# Altium integrated library un52E.IntLib: 36 symbols
Pins are listed as number, name and electrical type; pins without a type are passive.

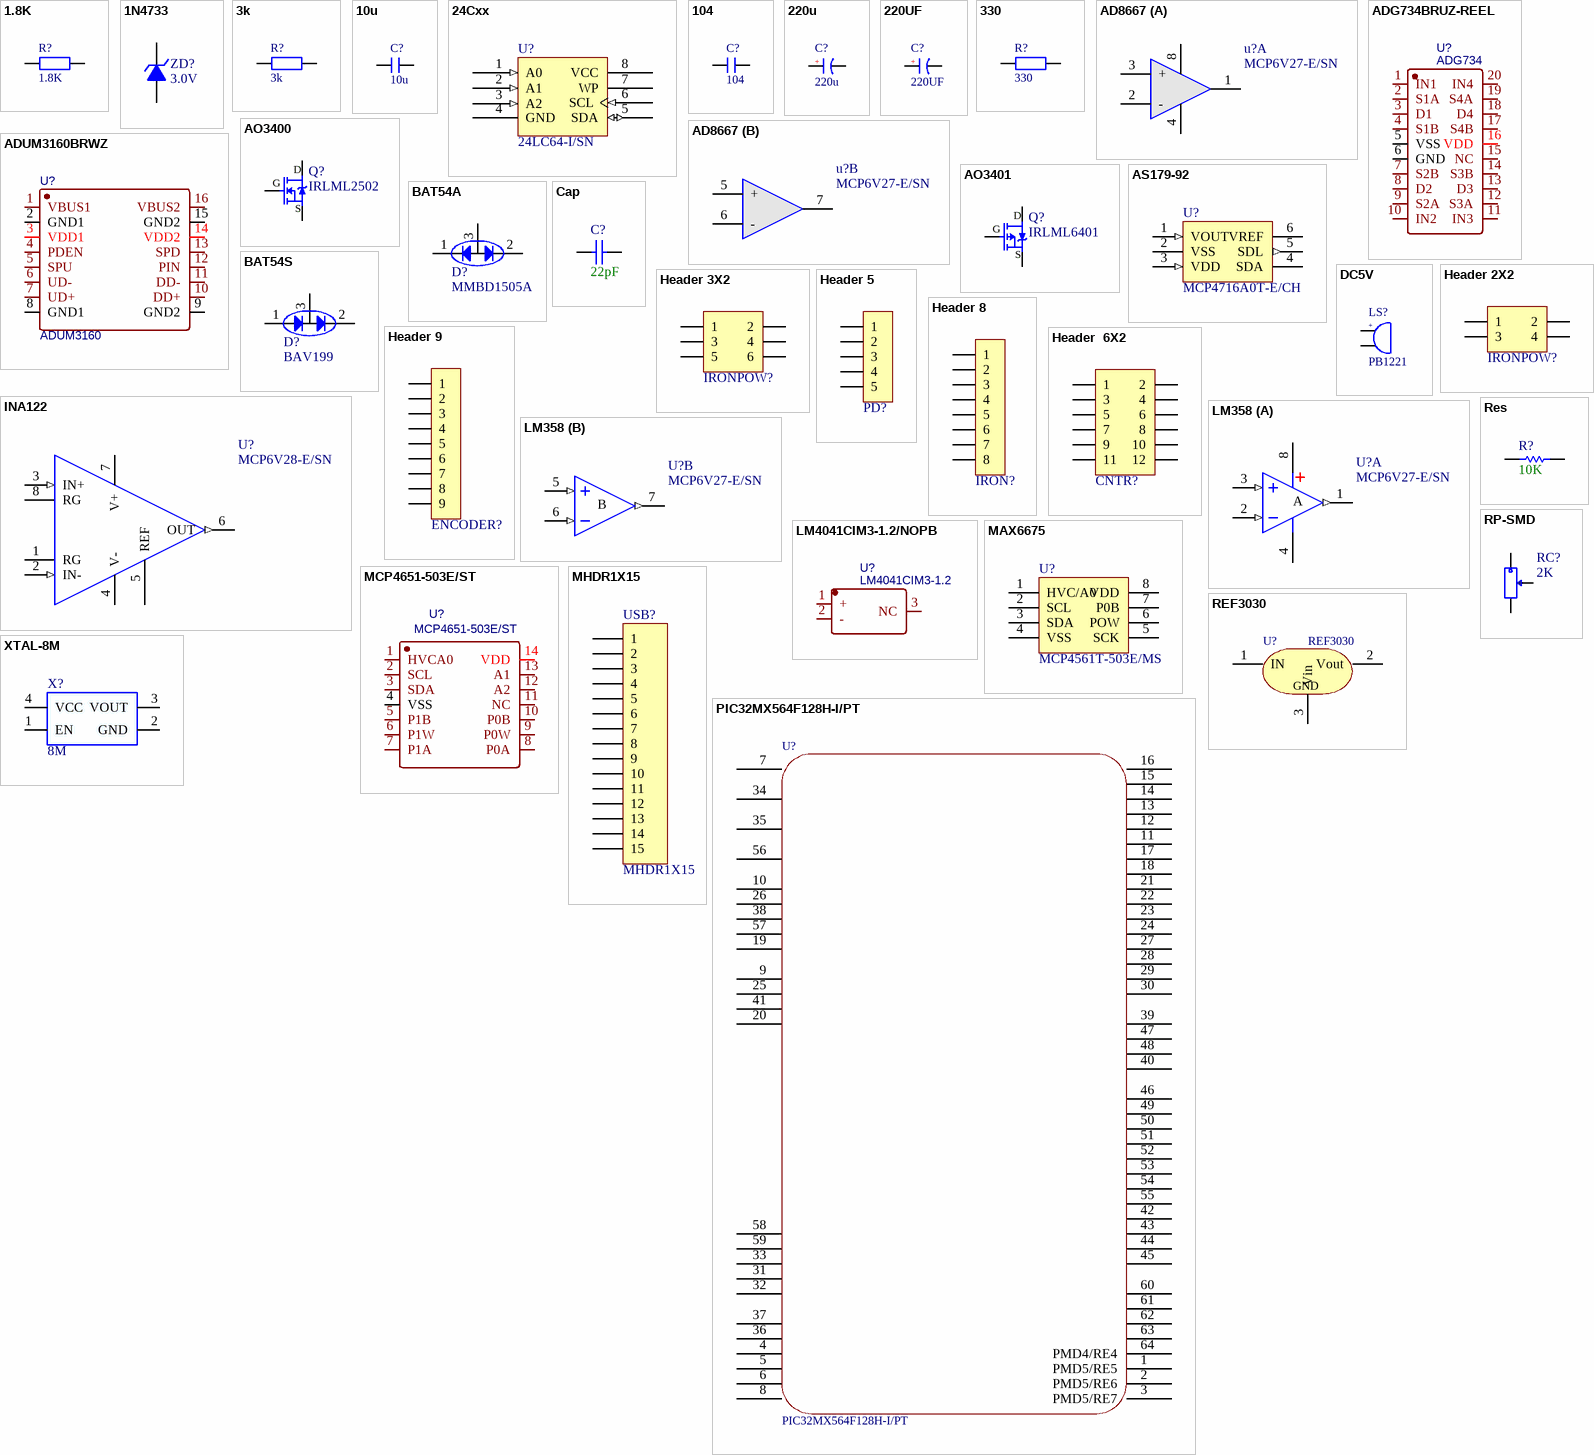
[diagram p0: symbols 1.8K to XTAL-8M]

## 1.8K
designator R?
BOM名称: 贴片电阻; 版权归属: 源创客; 学习资源: www.ooocke.com
footprint R 0603_L
footprint R 0805_L
pins: 1, 2

## 1N4733
designator ZD?, comment 3.0V
5.1V/1W稳压管; 版权归属: 源创客; BOM名称: 5.1V/1W稳压管; 学习资源: www.ooocke.com
footprint DO-41 (2.6*9.1mm(直径，脚距）)
footprint MELF (LL41) (2.4*5.3mm(直径，脚距）)
footprint DO-41V (2.6*3.5mm(直径，脚距）)
footprint SMA (4.5x2.6*2.2mm（长宽高，不包括引脚）)
footprint MINI_MELF (LL34) (1.5*3.4mm(直径，脚距）)
footprint SOD-123 (2.7x1.6X1.1mm（长宽高，不包括引脚）)
pins: 1 A, 2 K

## 3k
designator R?
BOM名称: 贴片电阻; 版权归属: 源创客; 学习资源: www.ooocke.com
footprint R 0603_L
footprint R 0805_L
pins: 1, 2

## 10u
designator C?
BOM名称: 无极性贴片电容; 版权归属: 源创客; 材质: X7R; 学习资源: www.ooocke.com
footprint C 0805_L
pins: 1, 2

## 24Cxx
designator U?, comment 24LC64-I/SN
外置EEPROM; 版权归属: 源创客; BOM名称: 外置EEPROM; 学习资源: www.ooocke.com
footprint SOP8_L (5*6*1.8mm（长宽高）)
footprint SOP8_N (5*6*1.8mm（长宽高）)
footprint SOP8_M (5*6*1.8mm（长宽高）)
pins: 1 A0 (in), 2 A1 (in), 3 A2 (in), 4 GND, 5 SDA (io), 6 SCL (in), 7 WP, 8 VCC (power)

## 104
designator C?
BOM名称: 无极性贴片电容; 版权归属: 源创客; 材质: X7R; 学习资源: www.ooocke.com
footprint C 0603_L
pins: 1, 2

## 220u
designator C?
BOM名称: 贴片钽电容; 版权归属: 源创客; 学习资源: www.ooocke.com
footprint CD D(7343)
pins: 1 A, 2 K
text: +

## 220UF
designator C?
BOM名称: 贴片钽电容; 版权归属: 源创客; 学习资源: www.ooocke.com
footprint CD D(7343)
pins: 1 A, 2 K
text: +

## 330
designator R?
BOM名称: 贴片电阻; 版权归属: 源创客; 学习资源: www.ooocke.com
footprint R 0603_L
footprint R 0805_L
pins: 1, 2

## AD8667
designator u?, comment MCP6V27-E/SN
双运放; 版权归属: 源创客; BOM名称: 双运放; 学习资源: www.ooocke.com
footprint SOP8_N (5*6*1.8mm（长宽高）)
footprint SOP8_L (5*6*1.8mm（长宽高）)
footprint SOP8_M (5*6*1.8mm（长宽高）)
part A pins: 1 OUT1, 2 -, 3 +, 4 V- (power), 8 V+ (power)
part B pins: 5 +, 6 -, 7 OUT2

## ADG734BRUZ-REEL
designator U?, comment ADG734
BOM_Manufacturer: Analog Devices; BOM_Manufacturer Part: ADG734BRUZ-REEL; Contributor: LCSC; SMT Type: Extend; BOM_Supplier: LCSC; BOM_Supplier Part: C579105; BOM_JLCPCB SMD: Yes; spicePre: U; spiceSymbolName: ADG734BRUZ-REEL
footprint SSOP20_L (7.2*7.8*1.6（长宽高）)
footprint SSOP20 (SSOP; 20 Leads; Body Width 5.3 mm; Pitch 0.65 mm)
footprint TSSOP20 (Shrink Small Outline; 20 Leads; Body Width 4.4 mm; Pitch 0.65 mm)
pins: 1 IN1, 2 S1A, 3 D1, 4 S1B, 5 VSS, 6 GND, 7 S2B, 8 D2, 9 S2A, 10 IN2, 11 IN3, 12 S3A, 13 D3, 14 S3B, 15 NC, 16 VDD, 17 S4B, 18 D4, 19 S4A, 20 IN4

## ADUM3160BRWZ
designator U?, comment ADUM3160
BOM_Manufacturer: ADI; BOM_Manufacturer Part: ADUM3160BRWZ; Contributor: LCSC; SMT Type: Extend; BOM_Supplier: LCSC; BOM_Supplier Part: C108501; BOM_JLCPCB SMD: Yes; spicePre: U; spiceSymbolName: ADUM3160BRWZ
footprint SOP16W_L (10.3*10.3*2.6mm（长宽高）)
pins: 1 VBUS1, 2 GND1, 3 VDD1, 4 PDEN, 5 SPU, 6 UD-, 7 UD+, 8 GND1, 9 GND2, 10 DD+, 11 DD-, 12 PIN, 13 SPD, 14 VDD2, 15 GND2, 16 VBUS2

## AO3400
designator Q?, comment IRLML2502
N沟道 30V/4.2A; BOM名称: 场效应管; 版权归属: 源创客; 学习资源: www.ooocke.com; 描述: N沟道 30V/4.2A
footprint SOT23-3N (3x1.3x1mm(长宽高))
footprint SOT23-3L (3x1.3x1mm(长宽高))
footprint SOT23-3M (3x1.3x1mm(长宽高))
pins: 1 G, 2 S, 3 D

## AO3401
designator Q?, comment IRLML6401
P沟道 30V/4.2A; BOM名称: 场效应管; 版权归属: 源创客; 学习资源: www.ooocke.com; 描述: P沟道 30V/4.2A
footprint SOT23-3N (3x1.3x1mm(长宽高))
footprint SOT23-3L (3x1.3x1mm(长宽高))
footprint SOT23-3M (3x1.3x1mm(长宽高))
pins: 1 G, 2 S, 3 D

## AS179-92
designator U?, comment MCP4716A0T-E/CH
射频开关芯片; 版权归属: 源创客; BOM名称: 射频开关芯片; 学习资源: www.ooocke.com
footprint SOT36-3N
footprint SOT23-6 (SOT-457/SC-74; 6 Leads; Body 3 x 3 mm, inc. leads (LxW max))
pins: 1 VOUT (in), 2 VSS, 3 VDD (in), 4 SDA, 5 SDL (out), 6 VREF

## BAT54A
designator D?, comment MMBD1505A
表贴肖特基二极管; BOM名称: 肖特基二极管; 版权归属: 源创客; 属性: 30V/0.2A; 学习资源: www.ooocke.com
footprint SOT23-3N (3x1.3x1mm(长宽高))
footprint SOT23-3L (3x1.3x1mm(长宽高))
footprint SOT23-3M (3x1.3x1mm(长宽高))
pins: 1, 2, 3

## BAT54S
designator D?, comment BAV199
表贴肖特基二极管; BOM名称: 肖特基二极管; 版权归属: 源创客; 属性: 30V/0.2A; 学习资源: www.ooocke.com
footprint SOT23-3N (3x1.3x1mm(长宽高))
footprint SOT23-3L (3x1.3x1mm(长宽高))
footprint SOT23-3M (3x1.3x1mm(长宽高))
pins: 1, 2, 3

## Cap
designator C?, comment 22pF
Capacitor; 物料编码: 6420063; 物料规格: 22p,50V,±5%,C0G; 物料名称: 贴片电容; 封装: 0603; 备注: C0603COG220J500NT; Published: 8-Jun-2000; LatestRevisionDate: 17-Jul-2002; LatestRevisionNote: Re-released for DXP Platform.; PackageReference: RAD-0.3; Publisher: Altium Limited; PackageDescription: Radial Cap, Thru-Hole; 2 Leads; 0.3 in Pin Spacing
footprint 0603_C
footprint 0805-C (Chip Resistor, Body 2.0x1.2mm, IPC High Density)
footprint 1206-C (Chip Capacitor, Body 3.2x1.6mm, IPC High Density)
footprint 1210-C (Chip Capacitor, Body 3.2x2.5mm, IPC Low Density)
footprint 1812-C (Chip Capacitor, Body 4.5x3.2mm, IPC High Density)
footprint RAD-0.1 (Radial Cap, Thru-Hole; 2 Leads; 0.1 in Pin Spacing)
footprint RAD-0.2 (Radial Cap, Thru-Hole; 2 Leads; 0.2 in Pin Spacing)
footprint RAD-0.3 (Radial Cap, Thru-Hole; 2 Leads; 0.3 in Pin Spacing)
footprint RAD-0.4 (Radial Cap, Thru-Hole; 2 Leads; 0.4 in Pin Spacing)
footprint 2220-C (Chip Capacitor, Body 5.7x5.0mm, IPC High Density)
footprint RAD-0.25 (Radial Cap, Thru-Hole; 2 Leads; 0.3 in Pin Spacing)
footprint R 0805_L (1/8W贴片电阻)
pins: 1, 2

## DC5V
designator LS?, comment PB1221
BOM名称: 蜂鸣器; 版权归属: 源创客; 学习资源: www.ooocke.com
footprint BEEP 7.6X12X7.5
footprint MX 1.25-LI-2P (长：4.25mm，宽：3.2mm，高：4.2mm)
footprint MLT-5020 (蜂鸣器)
pins: 1, 2
text: +

## Header 2X2
designator IRONPOW?, comment Header2X2  (value not drawn)
2*2P接插件; 版权归属: 源创客; BOM名称: 2*2P接插件; 学习资源: www.ooocke.com
footprint PHB2.0-LI-2x2P (长：6mm，宽：7.3mm，高：7.8mm)
footprint PHD2.0-LI-2x2P (4脚，长：6mm，宽：5mm，高：6.5mm)
footprint HDR2.0-LI-2x2P (直插，脚距：2.0mm)
footprint HDR2.0-WI-2x2P (卧插，脚距：2.0mm)
footprint HDR2.0-M-LI-2x2P (直插，脚距：2.0mm)
footprint HDR2.54-LI-2x2P (双排排针，2x2脚)
footprint HDR2.54-LI-4P (排针，4脚)
pins: 1, 2, 3, 4

## Header 3X2
designator IRONPOW?, comment Header3X2  (value not drawn)
3*2P接插件; 版权归属: 源创客; BOM名称: 3*2P接插件; 学习资源: www.ooocke.com
footprint IDC2.54-LI-2x3P (6P简易牛角座)
footprint HDR2.54-LI-2x3P (双排排针，3x2脚)
footprint HDR2.54-M-LS-2x3P (脚距：2.54mm，贴片双排母)
footprint HDR2.54-WI-2x3P (双排弯脚排针，3x2脚)
pins: 1, 2, 3, 4, 5, 6

## Header 5
designator PD?, comment HDR-1X5  (value not drawn)
5P接插件; 版权归属: 源创客; BOM名称: 5P接插件; 学习资源: www.ooocke.com
footprint HDR2.54-Y-LI-5P (圆孔排母，5脚)
footprint XH2.54-LI-5P (接插件，5P)
footprint HDR2.54-LI-5P (排针，5脚)
footprint HDR2.54-M-LI-5P (排母，5脚)
footprint HDR2.54-WI-5P (弯脚排针，5脚)
footprint HDR2.54-WS-5P (5P卧式贴片排针2.54)
footprint HDR2.54-Y-LI-5P (圆孔排母，5脚)
footprint HDR2.54-M-WS-5P (5P卧式贴片排母2.54)
footprint KF2510-LI-5P (接插件/2A)
footprint XH2.54-WS-5P (长：17.5mm，宽：8mm，高：6.1mm)
footprint XH2.54-LS-5P (长：17.5mm，宽：6mm，高：8.3mm)
footprint KF2EDGK-2.54-LI-5P (长：14.6mm，宽：8.1mm，高：10.1mm)
footprint KF2EDGK-2.54-WI-5P (长：14.6mm，宽：10.1mm，高：8.1mm)
footprint HDR2.0-LI-5P (直插，脚距：2.0mm)
footprint HDR1.27-LI-5P (直插，脚距：1.27mm)
pins: 1, 2, 3, 4, 5

## Header 8
designator IRON?, comment HDR-1X8  (value not drawn)
8P接插件; 版权归属: 源创客; BOM名称: 8P接插件; 学习资源: www.ooocke.com
footprint PH2.0-WI-8P (长：17.9mm，宽：6mm，高：4.7mm)
footprint PH2.0-LI-8P (长：17.9mm，宽：4.7mm，高：6mm)
footprint PH2.0-WS-8P (长：20mm，宽：7.6mm，高：5.5mm)
footprint PH2.0-LS-8P (长：20mm，宽：5.5mm，高：6.1mm)
footprint HDR2.0-LI-8P (直插，脚距：2.0mm)
footprint HDR2.0-wI-8P (卧插，脚距：2.0mm)
footprint HDR2.0-M-LI-8P (直插排母，脚距：2.0mm)
footprint M12-8P_FALAN
footprint GX16-8P
pins: 1, 2, 3, 4, 5, 6, 7, 8

## Header 9
designator ENCODER?, comment HDR-1X9  (value not drawn)
9P接插件; 版权归属: 源创客; BOM名称: 9P接插件; 学习资源: www.ooocke.com
footprint PH2.0-WI-9P (长：19.9mm，宽：6mm，高：4.7mm)
footprint PH2.0-LI-9P (长：19.9mm，宽：4.7mm，高：6mm)
footprint PH2.0-WS-9P (长：22mm，宽：7.6mm，高：5.5mm)
footprint PH2.0-LS-9P (长：22mm，宽：5.5mm，高：6.1mm)
footprint HDR2.0-LI-9P (直插，脚距：2.0mm)
footprint HDR2.0-WI-9P (卧插，脚距：2.0mm)
footprint HDR2.0-M-LI-9P (直插排母，脚距：2.0mm)
footprint EC11 (数字开关编码器)
footprint EC11
footprint EC11
pins: 1, 2, 3, 4, 5, 6, 7, 8, 9

## Header  6X2
designator CNTR?, comment Header 6X2  (value not drawn)
6*2P接插件; 版权归属: 源创客; BOM名称: 6*2P接插件; 学习资源: www.ooocke.com
footprint PHB2.0-LI-2x6P (长：14mm，宽：7.3mm，高：7.8mm)
footprint PHD2.0-LI-2x6P (12脚，长：14mm，宽：5mm，高：6.5mm)
footprint HDR2.0-LI-2x6P (直插，脚距：2.0mm)
footprint HDR2.0-WI-2x6P (卧插，脚距：2.0mm)
footprint HDR2.0-M-LI-2x6P (直插，脚距：2.0mm)
footprint HDR2.54-LI-2x6P (双排排针，6x2脚)
pins: 1, 2, 3, 4, 5, 6, 7, 8, 9, 10, 11, 12

## INA122
designator U?, comment MCP6V28-E/SN
微功耗仪表运放; 版权归属: 源创客; BOM名称: 微功耗仪表运放; 学习资源: www.ooocke.com
footprint SOP8_L (5*6*1.8mm（长宽高）)
footprint SOP8_M (5*6*1.8mm（长宽高）)
footprint SOP8_N (5*6*1.8mm（长宽高）)
footprint DIP8-300 (9.4*7.6*3.8(长宽高）)
footprint DIP8-300_MH (带底座 9.4*7.6*3.8(长宽高）)
pins: 1 RG, 2 IN- (in), 3 IN+ (in), 4 V-, 5 REF, 6 OUT (out), 7 V+, 8 RG

## LM358
designator U?, comment MCP6V27-E/SN
双路运放; 版权归属: 源创客; BOM名称: 双路运放; 学习资源: www.ooocke.com
footprint SOP8_L (5*6*1.8mm（长宽高）)
footprint SOP8_N (5*6*1.8mm（长宽高）)
footprint SOP8_M (5*6*1.8mm（长宽高）)
footprint DIP8-300 (9.4*7.6*3.8(长宽高）)
part A pins: 1 OUT (out), 2 IN- (in), 3 IN+ (in), 4 V- (power), 8 V+ (power)
part B pins: 5 IN+ (in), 6 IN- (in), 7 OUT (out)
part A text: A
part B text: B

## LM4041CIM3-1.2/NOPB
designator U?, comment LM4041CIM3-1.2
BOM_Manufacturer: Texas Instruments; BOM_Manufacturer Part: LM4041CIM3-1.2/NOPB; Contributor: LCSC; SMT Type: Extend; BOM_Supplier: LCSC; BOM_Supplier Part: C205904; BOM_JLCPCB SMD: Yes; spicePre: U; spiceSymbolName: LM4041CIM3-1.2/NOPB
footprint SOT23-3L (3x1.3x1mm(长宽高))
pins: 1 +, 2 -, 3 NC

## MAX6675
designator U?, comment MCP4561T-503E/MS
K型热电偶检测芯片; 版权归属: 源创客; BOM名称: K型热电偶检测芯片; 学习资源: www.ooocke.com
footprint MSOP8_N (塑封体长3mm，宽3mm，脚距0.65)
footprint SOP8_L (5*6*1.8mm（长宽高）)
footprint SOP8_M (5*6*1.8mm（长宽高）)
pins: 1 HVC/A0, 2 SCL, 3 SDA, 4 VSS, 5 SCK, 6 POW, 7 P0B, 8 VDD

## MCP4651-503E/ST
designator U?
BOM_Manufacturer: MICROCHIP; Contributor: LCSC; SMT Type: Extend; BOM_Supplier: LCSC; BOM_Manufacturer Part: MCP4651-503E/ST; BOM_Supplier Part: C148010; BOM_JLCPCB SMD: Yes; spicePre: U; spiceSymbolName: MCP4651-503E/ST
footprint TSSOP14_L (5*6.4*1mm（长宽高）)
pins: 1 HVCA0, 2 SCL, 3 SDA, 4 VSS, 5 P1B, 6 P1W, 7 P1A, 8 P0A, 9 P0W, 10 P0B, 11 NC, 12 A2, 13 A1, 14 VDD

## MHDR1X15
designator USB?
Header, 15-Pin; LatestRevisionDate: 17-Jul-2002; LatestRevisionNote: Re-released for DXP Platform.; Publisher: Altium Limited
footprint MHDR1X15 (Connector; Header; 15 Position)
signal-integrity model Connector
footprint USB-TYPEC-14P
pins: 1, 2, 3, 4, 5, 6, 7, 8, 9, 10, 11, 12, 13, 14, 15

## PIC32MX564F128H-I/PT
designator U?
footprint TQFP64 10X10_M (64脚，体宽：10x10mm, 脚距：0.5mm)
pins: 1 PMD5/RE5, 2 PMD5/RE6, 3 PMD5/RE7, 4, 5, 6, 7, 8, 9, 10, 11, 12, 13, 14, 15, 16, 17, 18, 19, 20, 21, 22, 23, 24, 25, 26, 27, 28, 29, 30, 31, 32, 33, 34, 35, 36, 37, 38, 39, 40, 41, 42, 43, 44, 45, 46, 47, 48, 49, 50, 51, 52, 53, 54, 55, 56, 57, 58, 59, 60, 61, 62, 63, 64 PMD4/RE4

## REF3030
designator U?
BOM名称: 低压差线性稳压芯片; 版权归属: 源创客; 学习资源: www.ooocke.com
footprint SOT23-3N
pins: 1 IN, 2 Vout, 3 Vin
text: GND

## Res
designator R?, comment 10K
Resistor（贴片）; 物料编码: 6350004; 物料规格: 10KΩ,5%,1/10W; 物料名称: 贴片电阻; 封装: 0603; 备注: R0603K1002J; Published: 8-Jun-2000; LatestRevisionDate: 29-May-2009; LatestRevisionNote: IPC-7351 Footprint Added.; PackageReference: J1-0603; Publisher: Altium Limited; PackageDescription: Chip Resistor
footprint 0603_R
footprint 0805-R (Chip Resistor, Body 2.0x1.2mm, IPC High Density)
footprint 1206-R (Chip Capacitor, Body 3.2x1.6mm, IPC High Density)
footprint 1210-R (Chip Capacitor, Body 3.2x2.5mm, IPC High Density)
footprint 1812-R (Chip Capacitor, Body 4.5x3.2mm, IPC High Density)
footprint R 0805_L (1/8W贴片电阻)
pins: 1, 2

## RP-SMD
designator RC?, comment 2K
贴片电位器; 版权归属: 源创客; BOM名称: 贴片电位器; 学习资源: www.ooocke.com
footprint 3303W (3.5*3.1*1.5mm)
footprint 3314j (5*5*1.5mm)
pins: 1, 2, 3

## XTAL-8M
designator X?, comment 8M
8M有源晶振
footprint XTAL-3225
pins: 1 EN, 2 GND, 3 VOUT, 4 VCC